# Altium footprint library MDT420A03001.PcbLib: 1 footprints
Each footprint in its own frame and in the unit in brackets; x right, y up, seen from the top. Pads: shape width x height; smd on the part's side, far side on the other; paste and mask are expansions set on the pad; w line width, h text height; cw(c..) or ccw(c..) is an arc to the next point about the centre after c.
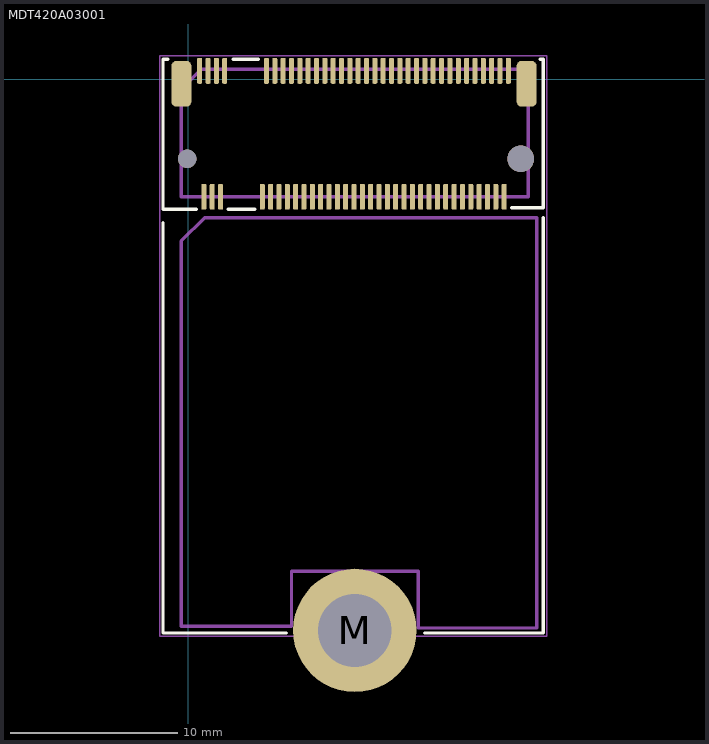
[diagram p0: the footprint, top view; thin cyan lines are the x and y axes]

## MDT420A03001 [mm]
pads (72):
  rrect50% 0.3x1.55 smd mask+0: 1(0.7,0.5) 2(0.95,-7.05) 3(1.2,0.5) 4(1.45,-7.05) 5(1.7,0.5) 6(1.95,-7.05) 7(2.2,0.5) 16(4.45,-7.05) 17(4.7,0.5) 18(4.95,-7.05) 19(5.2,0.5) 20(5.45,-7.05) 21(5.7,0.5) 22(5.95,-7.05) 23(6.2,0.5) 24(6.45,-7.05) 25(6.7,0.5) 26(6.95,-7.05) 27(7.2,0.5) 28(7.45,-7.05) 29(7.7,0.5) 30(7.95,-7.05) 31(8.2,0.5) 32(8.45,-7.05) 33(8.7,0.5) 34(8.95,-7.05) 35(9.2,0.5) 36(9.45,-7.05) 37(9.7,0.5) 38(9.95,-7.05) 39(10.2,0.5) 40(10.45,-7.05) 41(10.7,0.5) 42(10.95,-7.05) 43(11.2,0.5) 44(11.45,-7.05) 45(11.7,0.5) 46(11.95,-7.05) 47(12.2,0.5) 48(12.45,-7.05) 49(12.7,0.5) 50(12.95,-7.05) 51(13.2,0.5) 52(13.45,-7.05) 53(13.7,0.5) 54(13.95,-7.05) 55(14.2,0.5) 56(14.45,-7.05) 57(14.7,0.5) 58(14.95,-7.05) 59(15.2,0.5) 60(15.45,-7.05) 61(15.7,0.5) 62(15.95,-7.05) 63(16.2,0.5) 64(16.45,-7.05) 65(16.7,0.5) 66(16.95,-7.05) 67(17.2,0.5) 68(17.45,-7.05) 69(17.7,0.5) 70(17.95,-7.05) 71(18.2,0.5) 72(18.45,-7.05) 73(18.7,0.5) 74(18.95,-7.05) 75(19.2,0.5)
  round 7.4 hole 4.4 mask+0: M(10,-33.05)
  rrect50% 1.2x2.75 smd mask+0: ""(-0.4,-0.275) ""(20.3,-0.275)
  round 1.1 hole 1.1 unplated mask+0: ""(-0.05,-4.775)
  round 1.6 hole 1.6 unplated mask+0: ""(19.95,-4.775)
Top Overlay:
  lines w0.2: -1.5,-8.6 -1.5,-33.2 5.9,-33.2 ; -1.2,1.2 -1.5,1.2 -1.5,0.9 -1.5,-7.8 0.5,-7.8 ; 2.4,-7.8 4,-7.8 ; 2.7,1.2 4.2,1.2 ; 14.2,-33.2 21.3,-33.2 21.3,-8.3 ; 19.4,-7.7 21.3,-7.7 21.3,1.2 21.1,1.2
Mechanical 3:
  circle w0.1: c10,-33.05 r3.353
  lines w0.2: -0.4,-32.8 6.2,-32.8 6.2,-29.5 13.8,-29.5 13.8,-32.9 20.9,-32.9 20.9,-8.3 1,-8.3 -0.4,-9.7 -0.4,-32.8 ; -0.4,-7.05 -0.4,-0.6 0.8,0.6 20.4,0.6 20.4,-7.05 -0.4,-7.05
Mechanical 7:
  circle w0.05: c10,-33.05 r3.353
  lines w0.1: 6.6,-33.4 -1.7,-33.4 -1.7,-8 -1.7,1.4 21.5,1.4 21.5,-8 21.5,-33.4 13.4,-33.4
Mechanical 9 (Mech9):
  text "'.Designator'" at 4.067,-3.771 h1.02
3D body "mdt420a0x001_c3d.stp": height 4.21, standoff -0.59, extent -1.05,-7.625 20.95,0.925
3D body "ThP2230_3D_MKT_01_1671805238.214.step": height 4.63, standoff 2.39, extent -1,-33.05 21,-3.05
3D body "STP_78614025360 (rev1).stp": height 2.51, standoff -1.39, extent 7,-36.05 13,-30.05
3D body: height 4.2, standoff 0, extent -1.7,-33.4 21.5,1.4
3D body: height 2, standoff 0, extent 6.647,-36.403 13.353,-29.697